# Altium footprint library relay.PCBLIB: 291 footprints (part 16 of 19)
Each footprint in its own frame and in the unit in brackets; x right, y up, seen from the top. Pads: shape width x height; smd on the part's side, far side on the other; paste and mask are expansions set on the pad; w line width, h text height; cw(c..) or ccw(c..) is an arc to the next point about the centre after c.
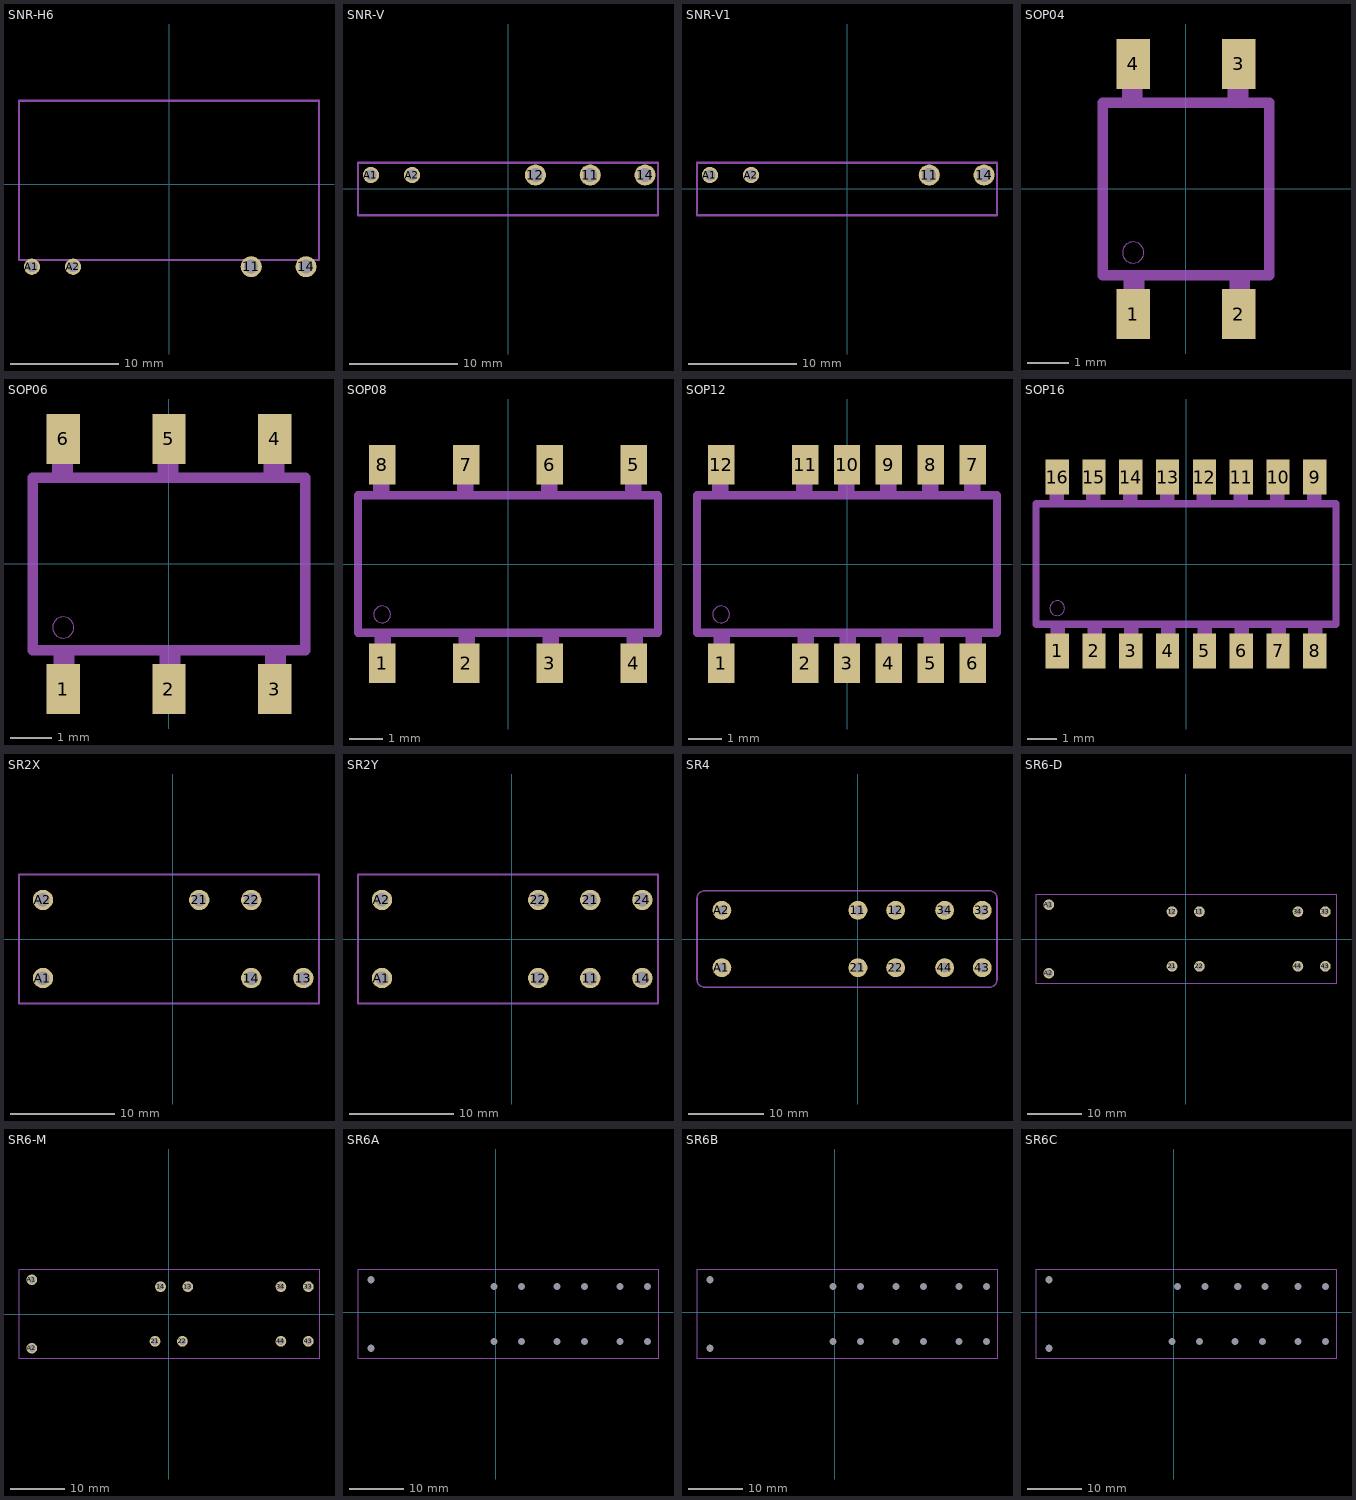
[diagram p15: the footprints below, top view; thin cyan lines are the x and y axes]

## SNR-H6 [mm]
pads (4):
  round 1.95 hole 1.3: 11(7.62,-7.62) 14(12.7,-7.62)
  round 1.5 hole 1: A1(-12.7,-7.62) A2(-8.89,-7.62)
Mechanical 2:
  lines w0.203: -13.9,-6.99 -13.9,7.76 13.9,7.76 13.9,-6.99 ; -11.36,-6.99 -10.23,-6.99 ; -7.55,-6.99 1.2,-6.99 ; 3.88,-6.99 6.28,-6.99 ; 8.96,-6.99 11.36,-6.99
Mechanical 18:
  rectangle: -13.2,-7.69 -12.2,-7.04
  rectangle: -9.4,-7.69 -8.4,-7.04
  rectangle: 7,-7.69 8.25,-7.09
  rectangle: 12.1,-7.69 13.35,-7.09
  lines w0.203: -13.9,-6.99 13.9,-6.99

## SNR-V [mm]
pads (5):
  round 1.95 hole 1.3: 11(7.62,1.27) 12(2.54,1.27) 14(12.7,1.27)
  round 1.5 hole 1: A1(-12.7,1.27) A2(-8.89,1.27)
Mechanical 2:
  lines w0.203: -13.9,-2.45 13.9,-2.45 13.9,2.4 -13.9,2.4 -13.9,-2.45

## SNR-V1 [mm]
pads (4):
  round 1.95 hole 1.3: 11(7.62,1.27) 14(12.7,1.27)
  round 1.5 hole 1: A1(-12.7,1.27) A2(-8.89,1.27)
Mechanical 2:
  lines w0.203: -13.9,-2.45 13.9,-2.45 13.9,2.4 -13.9,2.4 -13.9,-2.45

## SOP04 [mil]
pads (4):
  rect 31.5x47.24 smd: 1(-50,-118.11) 2(50,-118.11) 3(50,118.11) 4(-50,118.11)
Mechanical 2:
  circle w0: c-50,-60 r10
  lines w10: -78.74,-81.69 78.74,-81.69 78.74,81.69 -78.74,81.69 -78.74,-81.69
Mechanical 18:
  rectangle: -59.06,-131.89 -39.37,-82.68
  rectangle: 40.94,-131.89 60.63,-82.68
  rectangle: 39.37,82.68 59.06,131.89
  rectangle: -60.63,82.68 -40.94,131.89

## SOP06 [mil]
pads (6):
  rect 31.5x47.24 smd: 1(-100,-118.11) 2(0,-118.11) 3(100,-118.11) 4(100,118.11) 5(0,118.11) 6(-100,118.11)
Mechanical 2:
  circle w0: c-100,-60 r10
  lines w10: -128.74,-81.69 128.74,-81.69 128.74,81.69 -128.74,81.69 -128.74,-81.69
Mechanical 18:
  rectangle: -109.06,-131.89 -89.37,-82.68
  rectangle: -9.06,-131.89 10.63,-82.68
  rectangle: 90.94,-131.89 110.63,-82.68
  rectangle: 89.37,82.68 109.06,131.89
  rectangle: -10.63,82.68 9.06,131.89
  rectangle: -110.63,82.68 -90.94,131.89

## SOP08 [mil]
pads (8):
  rect 31.5x47.24 smd: 1(-150,-118.11) 2(-50,-118.11) 3(50,-118.11) 4(150,-118.11) 5(150,118.11) 6(50,118.11) 7(-50,118.11) 8(-150,118.11)
Mechanical 2:
  circle w0: c-150,-60 r10
  lines w10: -178.74,-81.69 178.74,-81.69 178.74,81.69 -178.74,81.69 -178.74,-81.69
Mechanical 18:
  rectangle: -159.06,-131.89 -139.37,-82.68
  rectangle: -59.06,-131.89 -39.37,-82.68
  rectangle: 40.94,-131.89 60.63,-82.68
  rectangle: 140.94,-131.89 160.63,-82.68
  rectangle: 139.37,82.68 159.06,131.89
  rectangle: 39.37,82.68 59.06,131.89
  rectangle: -60.63,82.68 -40.94,131.89
  rectangle: -160.63,82.68 -140.94,131.89

## SOP12 [mil]
pads (12):
  rect 31.5x47.24 smd: 1(-150,-118.11) 2(-50,-118.11) 3(0,-118.11) 4(50,-118.11) 5(100,-118.11) 6(150,-118.11) 7(150,118.11) 8(100,118.11) 9(50,118.11) 10(0,118.11) 11(-50,118.11) 12(-150,118.11)
Mechanical 2:
  circle w0: c-150,-60 r10
  lines w10: -178.74,-81.69 178.74,-81.69 178.74,81.69 -178.74,81.69 -178.74,-81.69
Mechanical 18:
  rectangle: -159.06,-131.89 -139.37,-82.68
  rectangle: -59.06,-131.89 -39.37,-82.68
  rectangle: -9.06,-131.89 10.63,-82.68
  rectangle: 40.94,-131.89 60.63,-82.68
  rectangle: 90.94,-131.89 110.63,-82.68
  rectangle: 140.94,-131.89 160.63,-82.68
  rectangle: 139.37,82.68 159.06,131.89
  rectangle: 89.37,82.68 109.06,131.89
  rectangle: 39.37,82.68 59.06,131.89
  rectangle: -10.63,82.68 9.06,131.89
  rectangle: -60.63,82.68 -40.94,131.89
  rectangle: -160.63,82.68 -140.94,131.89

## SOP16 [mil]
pads (16):
  rect 31.5x47.24 smd: 1(-175,-118.11) 2(-125,-118.11) 3(-75,-118.11) 4(-25,-118.11) 5(25,-118.11) 6(75,-118.11) 7(125,-118.11) 8(175,-118.11) 9(175,118.11) 10(125,118.11) 11(75,118.11) 12(25,118.11) 13(-25,118.11) 14(-75,118.11) 15(-125,118.11) 16(-175,118.11)
Mechanical 2:
  circle w0: c-175,-60 r10
  lines w10: -203.74,-81.69 203.74,-81.69 203.74,81.69 -203.74,81.69 -203.74,-81.69
Mechanical 18:
  rectangle: -184.06,-131.89 -164.37,-82.68
  rectangle: -134.06,-131.89 -114.37,-82.68
  rectangle: -84.06,-131.89 -64.37,-82.68
  rectangle: -34.06,-131.89 -14.37,-82.68
  rectangle: 15.94,-131.89 35.63,-82.68
  rectangle: 65.94,-131.89 85.63,-82.68
  rectangle: 115.94,-131.89 135.63,-82.68
  rectangle: 165.94,-131.89 185.63,-82.68
  rectangle: 164.37,82.68 184.06,131.89
  rectangle: 114.37,82.68 134.06,131.89
  rectangle: 64.37,82.68 84.06,131.89
  rectangle: 14.37,82.68 34.06,131.89
  rectangle: -35.63,82.68 -15.94,131.89
  rectangle: -85.63,82.68 -65.94,131.89
  rectangle: -135.63,82.68 -115.94,131.89
  rectangle: -185.63,82.68 -165.94,131.89

## SR2X [mm]
pads (6):
  round 1.95 hole 1.3: 13(12.54,-3.75) 14(7.54,-3.75) 21(2.54,3.75) 22(7.54,3.75) A1(-12.46,-3.75) A2(-12.46,3.75)
Mechanical 2:
  lines w0.203: -14.76,-6.2 14.04,-6.2 14.04,6.2 -14.76,6.2 -14.76,-6.2

## SR2Y [mm]
pads (8):
  round 1.95 hole 1.3: 11(7.54,-3.75) 12(2.54,-3.75) 14(12.54,-3.75) 21(7.54,3.75) 22(2.54,3.75) 24(12.54,3.75) A1(-12.46,-3.75) A2(-12.46,3.75)
Mechanical 2:
  lines w0.203: -14.76,-6.2 14.04,-6.2 14.04,6.2 -14.76,6.2 -14.76,-6.2

## SR4 [mm]
pads (10):
  round 2.5 hole 1.3: 11(0,3.8) 12(5,3.8) 21(0,-3.8) 22(5,-3.8) 33(16.5,3.8) 34(11.5,3.8) 43(16.5,-3.8) 44(11.5,-3.8) A1(-18.05,-3.8) A2(-18.05,3.8)
Mechanical 2:
  lines w0.203: -21.35,-5.4 -21.35,5.4 cw(c-20.35,5.4) -20.35,6.4 17.45,6.4 cw(c17.45,5.4) 18.45,5.4 18.45,-5.4 cw(c17.45,-5.4) 17.45,-6.4 -20.35,-6.4 cw(c-20.35,-5.4) -21.35,-5.4

## SR6-D [mm]
pads (10):
  round 1.95 hole 1.3: 11(2.5,5) 12(-2.5,5) 21(-2.5,-5) 22(2.5,-5) 33(25.5,5) 34(20.5,5) 43(25.5,-5) 44(20.5,-5) A1(-25,6.25) A2(-25,-6.25)
Mechanical 2:
  lines w0.203: -27.35,-8.15 27.45,-8.15 27.45,8.15 -27.35,8.15 -27.35,-8.15

## SR6-M [mm]
pads (10):
  round 1.95 hole 1.3: 13(3.5,5) 14(-1.5,5) 21(-2.5,-5) 22(2.5,-5) 33(25.5,5) 34(20.5,5) 43(25.5,-5) 44(20.5,-5) A1(-25,6.25) A2(-25,-6.25)
Mechanical 2:
  lines w0.203: -27.35,-8.15 27.45,-8.15 27.45,8.15 -27.35,8.15 -27.35,-8.15

## SR6A [mm]
pads (14):
  round 1 hole 1.3: 11(-0.3,4.7) 12(4.7,4.7) 21(-0.3,-5.3) 22(4.7,-5.3) 31(11.2,4.7) 32(16.2,4.7) 43(16.2,-5.3) 44(11.2,-5.3) 53(27.7,4.7) 54(22.7,4.7) 63(27.7,-5.3) 64(22.7,-5.3) A1(-22.8,5.95) A2(-22.8,-6.55)
Mechanical 2:
  lines w0.203: -25.15,-8.45 29.65,-8.45 29.65,7.85 -25.15,7.85 -25.15,-8.45

## SR6B [mm]
pads (14):
  round 1 hole 1.3: 11(-0.3,4.7) 12(4.7,4.7) 21(-0.3,-5.3) 22(4.7,-5.3) 33(16.2,4.7) 34(11.2,4.7) 43(16.2,-5.3) 44(11.2,-5.3) 53(27.7,4.7) 54(22.7,4.7) 63(27.7,-5.3) 64(22.7,-5.3) A1(-22.8,5.95) A2(-22.8,-6.55)
Mechanical 2:
  lines w0.203: -25.15,-8.45 29.65,-8.45 29.65,7.85 -25.15,7.85 -25.15,-8.45

## SR6C [mm]
pads (14):
  round 1 hole 1.3: 13(5.7,4.7) 14(0.7,4.7) 21(-0.3,-5.3) 22(4.7,-5.3) 33(16.7,4.7) 34(11.7,4.7) 43(16.2,-5.3) 44(11.2,-5.3) 53(27.7,4.7) 54(22.7,4.7) 63(27.7,-5.3) 64(22.7,-5.3) A1(-22.8,5.95) A2(-22.8,-6.55)
Mechanical 2:
  lines w0.203: -25.15,-8.45 29.65,-8.45 29.65,7.85 -25.15,7.85 -25.15,-8.45